# EAGLE library part AD623 (library AD623)
AD623: Single-Supply, Rail-to-Rail, Low Cost Instrumentation Amplifier Input voltage range extends 150 mV below ground (single supply) Output voltage range swings within 10mV of GND Low power, 550 μA maximum supply current Gain set with one external resistor Gain range: 1 (no resistor) to 1000 800 kHz bandwidth (G = 1) 20 μs settling time to 0.01% (G = 10) The AD623 is an integrated single-supply instrumentation amplifier that delivers rail-to-rail output swing on a 3 V to 12 V supply. The AD623 offers superior user flexibility by allowing single gain set resistor programming and by conforming to the 8-lead industry standard pinout configuration. With no external resistor, the AD623 is configured for unity gain (G = 1), and with an external resistor, the AD623 can be programmed for gains up to 1000
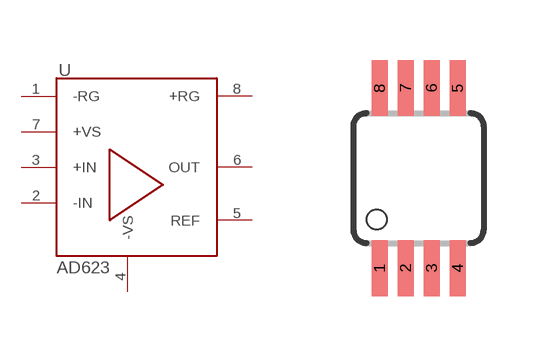
[diagram p0: symbol with the pads of MSOP8; footprint MSOP8]

Designator prefix U

## AD623  [MSOP8]
1  -RG
2  -IN
3  +IN
4  -VS
5  REF
6  OUT
7  +VS
8  +RG

## Footprint MSOP8 (pad centres in mm)
smd 0.4 x 1.4: 1 -0.975,-2.35; 2 -0.325,-2.35; 3 0.325,-2.35; 4 0.975,-2.35; 5 0.975,2.15; 6 0.324,2.15; 7 -0.325,2.15; 8 -0.975,2.15